# EAGLE library part UCC27211AQDDARQ1 (library UCC27211AQDDARQ1)
120-V Boot, 4-A Peak, High-Frequency High-Side and Low-Side Driver Source: Datasheet <http://www.ti.com/lit/gpn/ucc27211a-q1>
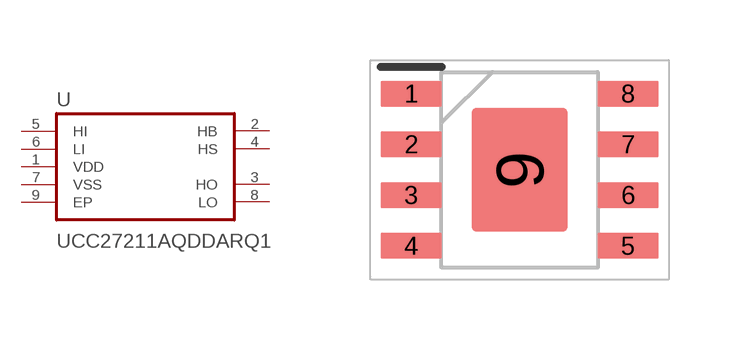
[diagram p0: symbol with the pads of SOIC127P600X170-9N; footprint SOIC127P600X170-9N]

Designator prefix U

## UCC27211AQDDARQ1 (DESCRIPTION: 120-V Boot, 4-A Peak, High-Frequency High-Side and Low-Side Driver; HEIGHT: 1.7mm; JLCPCB: C485921; MANUFACTURER_NAME: Texas Instruments; MANUFACTURER_PART_NUMBER: UCC27211AQDDARQ1; MOUSER_PART_NUMBER: 595-UCC27211AQDDARQ1; MOUSER_PRICE-STOCK: https://www.mouser.co.uk/ProductDetail/Texas-Instruments/UCC27211AQDDARQ1?qs=n%252BTO0c4TDSYQNOcAHEGCfA%3D%3D)  [SOIC127P600X170-9N]
1  VDD  pwr
2  HB
3  HO
4  HS
5  HI  in
6  LI  in
7  VSS  pwr
8  LO
9  EP  pwr

## Footprint SOIC127P600X170-9N (pad centres in mm)
SO PowerPAD+
smd 1.525 x 0.65: 1 -2.712,1.905; 2 -2.712,0.635; 3 -2.712,-0.635; 4 -2.712,-1.905; 5 2.712,-1.905; 6 2.712,-0.635; 7 2.712,0.635; 8 2.712,1.905
smd 2.4 x 3.1: 9 0,0